# Altium footprint library 12-Pcblib_Com.PcbLib: 12 footprints
Each footprint in its own frame and in the unit in brackets; x right, y up, seen from the top. Pads: shape width x height; smd on the part's side, far side on the other; paste and mask are expansions set on the pad; w line width, h text height; cw(c..) or ccw(c..) is an arc to the next point about the centre after c.
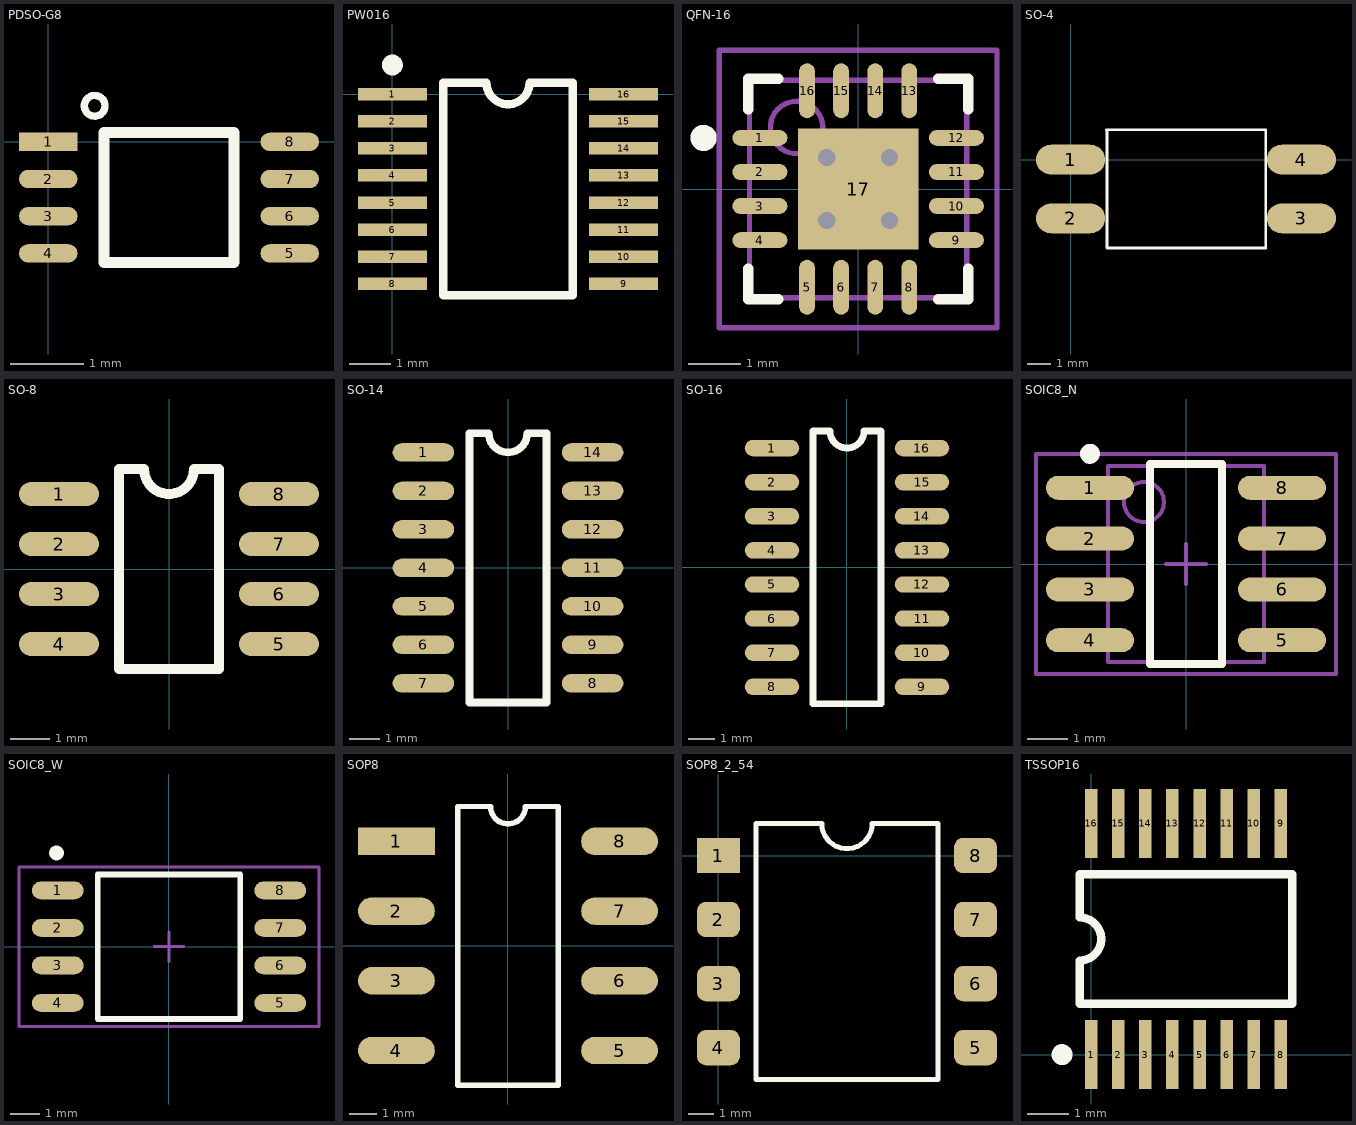
[diagram p0: the footprints below, top view; thin cyan lines are the x and y axes]

## PDSO-G8 [mm] "U"
height 4
pads (8):
  rect 0.8x0.25 smd: 1(0,0)
  oval 0.8x0.25 smd: 2(0,-0.508) 3(0,-1.016) 4(0,-1.524) 5(3.302,-1.524) 6(3.302,-1.016) 7(3.302,-0.508) 8(3.302,0)
Top Overlay:
  circle w0.1: c0.635,0.493 r0.142
  lines w0.15: 0.762,-1.651 2.54,-1.651 2.54,0.127 0.762,0.127 0.762,-1.651

## PW016 [mm] "Shrink Small Outline; 16 Leads; Body Width 4.4 mm; Pitch 0.65 mm"
height 1.2
pads (16):
  rect 1.65x0.3 smd: 1(0,0) 2(0,-0.65) 3(0,-1.3) 4(0,-1.95) 5(0,-2.6) 6(0,-3.25) 7(0,-3.9) 8(0,-4.55) 9(5.55,-4.55) 10(5.55,-3.9) 11(5.55,-3.25) 12(5.55,-2.6) 13(5.55,-1.95) 14(5.55,-1.3) 15(5.55,-0.65) 16(5.55,0)
Top Overlay:
  circle w0.25: c0,0.7 r0.125
  lines w0.2: 1.225,-4.825 1.225,0.275 2.258,0.275 ccw(c2.775,0.275) 3.292,0.275 4.325,0.275 4.325,-4.825 1.225,-4.825

## QFN-16 [mm] "QFN"
height 0.8
pads (17):
  oval 1.05x0.3 smd: 1(-1.875,0.975) 2(-1.875,0.325) 3(-1.875,-0.325) 4(-1.875,-0.975) 9(1.875,-0.975) 10(1.875,-0.325) 11(1.875,0.325) 12(1.875,0.975)
  oval 0.3x1.05 smd: 5(-0.975,-1.875) 6(-0.325,-1.875) 7(0.325,-1.875) 8(0.975,-1.875) 13(0.975,1.875) 14(0.325,1.875) 15(-0.325,1.875) 16(-0.975,1.875)
  rect 2.3x2.3 smd: 17(0,0)
via -0.6,0.6 diameter 0.66 hole 0.33
via 0.6,0.6 diameter 0.66 hole 0.33
via -0.6,-0.6 diameter 0.66 hole 0.33
via 0.6,-0.6 diameter 0.66 hole 0.33
Top Overlay:
  circle w0.25: c-2.95,0.975 r0.125
  lines w0.2: -2.1,-1.525 -2.1,-2.1 -1.525,-2.1 ; -2.1,1.525 -2.1,2.1 -1.525,2.1 ; 1.525,-2.1 2.1,-2.1 2.1,-1.525 ; 1.525,2.1 2.1,2.1 2.1,1.525
Mechanical 13:
  circle w0.1: c-1.175,1.175 r0.5
  lines w0.1: -2.075,-2.075 -2.075,2.075 2.075,2.075 2.075,-2.075 -2.075,-2.075
Mechanical 15:
  lines w0.1: -0.5,0 0.5,0 ; 0,-0.5 0,0.5 ; -2.65,-2.65 -2.65,2.65 2.65,2.65 2.65,-2.65 -2.65,-2.65
3D body: height 0.8, standoff 0, extent -2.075,-2.075 2.075,2.075

## SO-4 [mm]
pads (4):
  oval 3x1.3 smd: 1(0,0) 2(0,-2.54) 3(10,-2.54) 4(10,0)
Top Overlay:
  lines w0.12: 1.548,1.301 8.459,1.301 8.459,-3.832 1.579,-3.832 1.579,1.27

## SO-8 [mil]
pads (8):
  oval 80x24 smd: 1(-110,75) 2(-110,25) 3(-110,-25) 4(-110,-75) 5(110,-75) 6(110,-25) 7(110,25) 8(110,75)
Top Overlay:
  lines w10: -50,-100 -50,100 -25,100 ccw(c0,100) 25,100 50,100 50,-100 -50,-100
3D body: height 66.93, standoff 0, extent -117.83,-96.45 118.39,96.46

## SO-14 [mil]
pads (14):
  oval 80x24 smd: 1(-110,150) 2(-110,100) 3(-110,50) 4(-110,0) 5(-110,-50) 6(-110,-100) 7(-110,-150) 8(110,-150) 9(110,-100) 10(110,-50) 11(110,0) 12(110,50) 13(110,100) 14(110,150)
Top Overlay:
  lines w10: -50,-175 50,-175 50,175 25,175 cw(c0,175) -25,175 -50,175 -50,-175
3D body: height 63.39, standoff 0, extent -121.04,-171.26 123.05,171.26

## SO-16 [mil]
pads (16):
  oval 80x24 smd: 1(-110,175) 2(-110,125) 3(-110,75) 4(-110,25) 5(-110,-25) 6(-110,-75) 7(-110,-125) 8(-110,-175) 9(110,-175) 10(110,-125) 11(110,-75) 12(110,-25) 13(110,25) 14(110,75) 15(110,125) 16(110,175)
Top Overlay:
  lines w10: -50,-200 -50,200 -25,200 ccw(c0,200) 25,200 50,200 50,-200 -50,-200
3D body: height 72.05, standoff 0, extent -115.72,-195.85 120.5,197.85

## SOIC8_N [mm] "8-Pin Small Outline Integrated Circuit Package (SOIC8), IPC Medium Density"
height 1.75
pads (8):
  oval 2.2x0.6 smd: 1(-2.4,1.905) 2(-2.4,0.635) 3(-2.4,-0.635) 4(-2.4,-1.905) 5(2.4,-1.905) 6(2.4,-0.635) 7(2.4,0.635) 8(2.4,1.905)
Top Overlay:
  circle w0.25: c-2.4,2.755 r0.125
  lines w0.2: -0.9,-2.5 0.9,-2.5 0.9,2.5 -0.9,2.5 -0.9,-2.5
Mechanical 13:
  circle w0.1: c-1.05,1.55 r0.5
  lines w0.1: -1.95,-2.45 1.95,-2.45 1.95,2.45 -1.95,2.45 -1.95,-2.45
Mechanical 15:
  lines w0.1: -0.5,0 0.5,0 ; 0,-0.5 0,0.5 ; -3.75,-2.75 3.75,-2.75 3.75,2.75 -3.75,2.75 -3.75,-2.75
3D body: height 1.75, standoff 0, extent -1.95,-2.45 1.95,2.45

## SOIC8_W [mm] "SPI_FLASH"
height 1.75
pads (8):
  oval 1.75x0.6 smd: 1(-3.768,1.905) 2(-3.768,0.635) 3(-3.768,-0.635) 4(-3.768,-1.905) 5(3.768,-1.905) 6(3.768,-0.635) 7(3.768,0.635) 8(3.768,1.905)
Top Overlay:
  circle w0.25: c-3.808,3.175 r0.125
  lines w0.2: -2.413,-2.45 -2.413,2.45 2.413,2.45 2.413,-2.45 -2.413,-2.45
Mechanical 15:
  lines w0.1: -0.5,0 0.5,0 ; 0,-0.5 0,0.5 ; -5.08,-2.7 -5.08,2.7 5.08,2.7 5.08,-2.7 -5.08,-2.7

## SOP8 [mm]
pads (8):
  rect 2.8x1 smd: 1(-4.065,3.81)
  oval 2.8x1 smd: 2(-4.065,1.27) 3(-4.065,-1.27) 4(-4.065,-3.81) 5(4.065,-3.81) 6(4.065,-1.27) 7(4.065,1.27) 8(4.065,3.81)
Top Overlay:
  lines w0.2: -1.83,-5.08 1.83,-5.08 1.83,5.08 0.635,5.08 cw(c0,5.08) -0.635,5.08 -1.83,5.08 -1.83,-5.08

## SOP8_2_54 [mm]
pads (8):
  rect 1.7x1.4 smd: 1(0,0)
  rrect50% 1.7x1.4 smd: 2(0,-2.54) 3(0,-5.08) 4(0,-7.62) 5(10.2,-7.62) 6(10.2,-5.08) 7(10.2,-2.54) 8(10.2,0)
Top Overlay:
  lines w0.2: 4.089,1.27 1.485,1.27 1.485,-8.89 8.715,-8.89 8.715,1.27 6.147,1.27 ; 4.1,1.27 ccw(c5.1,1.27) 6.1,1.27
3D body: height 3, standoff 0, extent -0.056,-8.801 10.343,1.059

## TSSOP16 [mm]
pads (16):
  rect 0.3x1.65 smd: 1(0,0) 2(0.65,0) 3(1.3,0) 4(1.95,0) 5(2.6,0) 6(3.25,0) 7(3.9,0) 8(4.55,0) 9(4.55,5.55) 10(3.9,5.55) 11(3.25,5.55) 12(2.6,5.55) 13(1.95,5.55) 14(1.3,5.55) 15(0.65,5.55) 16(0,5.55)
Top Overlay:
  circle w0.25: c-0.7,0 r0.125
  lines w0.2: -0.275,1.225 -0.275,2.258 ccw(c-0.275,2.775) -0.275,3.292 -0.275,4.325 4.825,4.325 4.825,1.225 -0.275,1.225